# EAGLE library part AS4950 (library ICs)
2A Brush DC Motor 8V~40V PWM ESOP-8 Motor Driver ICs ROHS
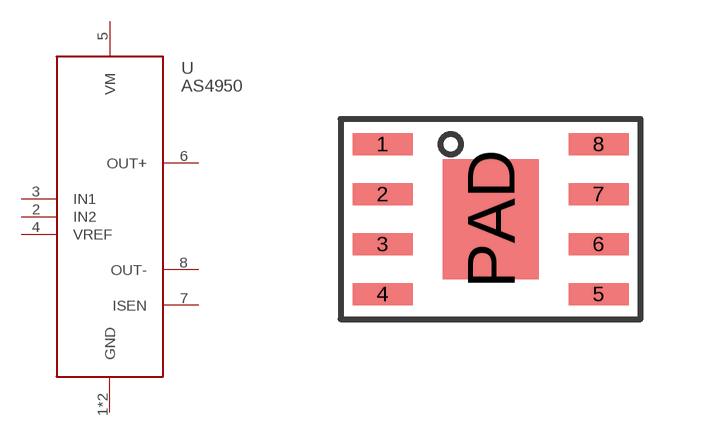
[diagram p343: symbol with the pads of SO8_PP; footprint SO8_PP]

Designator prefix U

## AS4950 (HEIGHT: 2; LCSC: C2929412; PRICE_PER: 0.43; VALUE: AS4950)  [SO8_PP]
1  GND
2  IN2
3  IN1
4  VREF
5  VM
6  OUT+
7  ISEN
8  OUT-
PAD  GND

## Footprint SO8_PP (pad centres in mm)
smd 1.5 x 0.55: 1 -2.7,1.875; 2 -2.7,0.625; 3 -2.7,-0.625; 4 -2.7,-1.875; 5 2.7,-1.875; 6 2.7,-0.625; 7 2.7,0.625; 8 2.7,1.875
smd 2.4 x 3: PAD 0,0